# Altium integrated library Cypress USB Controllers.IntLib: 169 symbols (part 3 of 15)
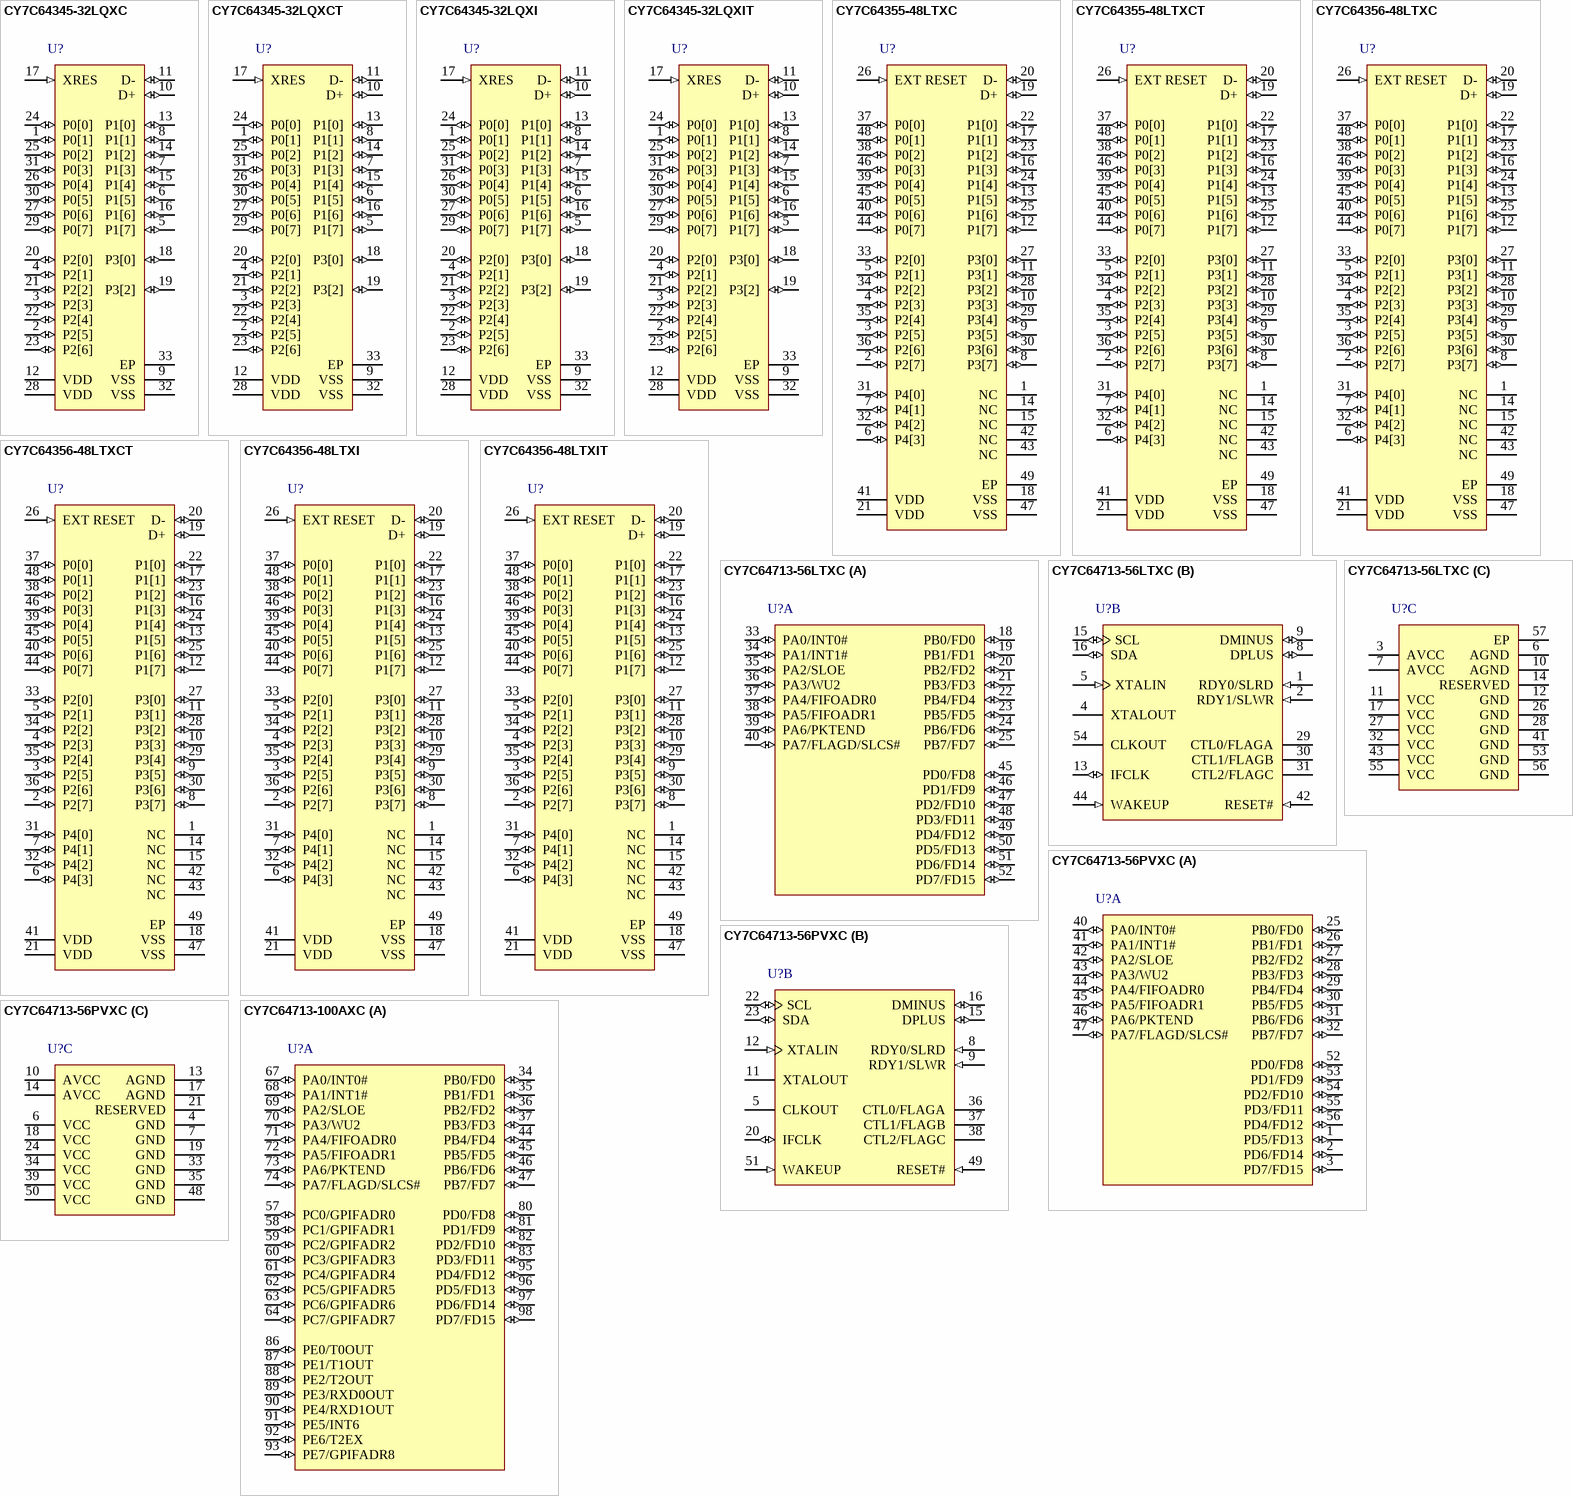
[diagram p24: symbols CY7C64345-32LQXC to CY7C64713-100AXC]

## CY7C64345-32LQXCT
designator U?
enCoRe(TM) V Full Speed USB Controller, 16 KB, 25 I/Os, 3 to 5.5 V, 0 to 70 degC, 32-Pin QFN (LQX32), Tape and Reel; Manufacturer: Cypress; PartNumber: CY7C64345-32LQXCT; CPU Core: M8C; Max. Operating Voltage (V): 5.5; Memory Architecture: Flash; Memory Size (KB): 16; Min. Operating Voltage (V): 3; No. of I/Os: 25; Populated: Yes; DatasheetVersion: Rev. *R; PackageVersion: Rev. *E; PackageReference: LQX32; PackageDescription: 32-Pin QFN (5 x 4 x 0.55 mm) LQ32 3.5 x 3.5 E-Pad (Sawn); Supplier 1: Digi-Key; Supplier Part Number 1: CY7C64345-32LQXCT-ND; Max. Operating Temp. (degreesC): 70; Min. Operating Temp. (degreesC): 0; Packing: Tape and Reel; RoHS: Pb-Free; Mounting Technology: Surface Mount; Code_JEDEC: MO-248; ComponentLink1Description: Manufacturer URL; ComponentLink1URL: http://www.cypress.com/; ComponentLink2Description: Datasheet; ComponentLink2URL: http://www.cypress.com/?docID=46968; ComponentLink3Description: Package Specification; ComponentLink3URL: http://www.cypress.com/?docID=46968
footprint CYP-LQX32_N (QFN, 32-Leads, Body 5x5mm, Pitch 0.5mm, Thermal Pad 3.5x3.5mm, IPC Medium Density)
footprint CYP-LQX32_L (QFN, 32-Leads, Body 5x5mm, Pitch 0.5mm, Thermal Pad 3.5X3.5mm, IPC High Density)
footprint CYP-LQX32_M (QFN, 32-Leads, Body 5x5mm, Pitch 0.5mm, Thermal Pad 3.5x3.5mm, IPC Low Density)
pins: 1 P0[1] (io) "Digital I/O", 2 P2[5] (io) "Digital I/O, crystal output (Xout)", 3 P2[3] (io) "Digital I/O, crystal Input (Xin)", 4 P2[1] (io) "Digital I/O", 5 P1[7] (io) "Digital I/O, I2C SCL, SPI SS", 6 P1[5] (io) "Digital I/O, I2C SDA, SPI MISO", 7 P1[3] (io) "Digital I/O, SPI CLK", 8 P1[1] (io) "Digital I/O, ISSP CLK, I2C SCL, SPI MOSI", 9 VSS (power) "Ground", 10 D+ (io) "USB PHY", 11 D- (io) "USB PHY", 12 VDD (power) "Supply voltage", 13 P1[0] (io) "Digital I/O, ISSP DATA, I2C SDA, SPI CLK", 14 P1[2] (io) "Digital I/O", 15 P1[4] (io) "Digital I/O, optional external clock input (EXTCLK)", 16 P1[6] (io) "Digital I/O", 17 XRES (in) "Active high external reset with internal pull down", 18 P3[0] (io) "Digital I/O", 19 P3[2] (io) "Digital I/O", 20 P2[0] (io) "Digital I/O", 21 P2[2] (io) "Digital I/O", 22 P2[4] (io) "Digital I/O", 23 P2[6] (io) "Digital I/O", 24 P0[0] (io) "Digital I/O", 25 P0[2] (io) "Digital I/O", 26 P0[4] (io) "Digital I/O", 27 P0[6] (io) "Digital I/O", 28 VDD (power) "Supply voltage", 29 P0[7] (io) "Digital I/O", 30 P0[5] (io) "Digital I/O", 31 P0[3] (io) "Digital I/O", 32 VSS (power) "Ground", 33 EP (power) "Ensure the center pad is connected to ground"

## CY7C64345-32LQXI
designator U?
enCoRe(TM) V Full Speed USB Controller, 16 KB, 25 I/Os, 3 to 5.5 V, -40 to 85 degC, 32-Pin QFN (LQX32); Manufacturer: Cypress; PartNumber: CY7C64345-32LQXI; CPU Core: M8C; Max. Operating Voltage (V): 5.5; Memory Architecture: Flash; Memory Size (KB): 16; Min. Operating Voltage (V): 3; No. of I/Os: 25; Populated: Yes; DatasheetVersion: Rev. *R; PackageVersion: Rev. *E; PackageReference: LQX32; PackageDescription: 32-Pin QFN (5 x 4 x 0.55 mm) LQ32 3.5 x 3.5 E-Pad (Sawn); Max. Operating Temp. (degreesC): 85; Min. Operating Temp. (degreesC): -40; RoHS: Pb-Free; Mounting Technology: Surface Mount; Code_JEDEC: MO-248; ComponentLink1Description: Manufacturer URL; ComponentLink1URL: http://www.cypress.com/; ComponentLink2Description: Datasheet; ComponentLink2URL: http://www.cypress.com/?docID=46968; ComponentLink3Description: Package Specification; ComponentLink3URL: http://www.cypress.com/?docID=46968
footprint CYP-LQX32_N (QFN, 32-Leads, Body 5x5mm, Pitch 0.5mm, Thermal Pad 3.5x3.5mm, IPC Medium Density)
footprint CYP-LQX32_L (QFN, 32-Leads, Body 5x5mm, Pitch 0.5mm, Thermal Pad 3.5X3.5mm, IPC High Density)
footprint CYP-LQX32_M (QFN, 32-Leads, Body 5x5mm, Pitch 0.5mm, Thermal Pad 3.5x3.5mm, IPC Low Density)
pins: 1 P0[1] (io) "Digital I/O", 2 P2[5] (io) "Digital I/O, crystal output (Xout)", 3 P2[3] (io) "Digital I/O, crystal Input (Xin)", 4 P2[1] (io) "Digital I/O", 5 P1[7] (io) "Digital I/O, I2C SCL, SPI SS", 6 P1[5] (io) "Digital I/O, I2C SDA, SPI MISO", 7 P1[3] (io) "Digital I/O, SPI CLK", 8 P1[1] (io) "Digital I/O, ISSP CLK, I2C SCL, SPI MOSI", 9 VSS (power) "Ground", 10 D+ (io) "USB PHY", 11 D- (io) "USB PHY", 12 VDD (power) "Supply voltage", 13 P1[0] (io) "Digital I/O, ISSP DATA, I2C SDA, SPI CLK", 14 P1[2] (io) "Digital I/O", 15 P1[4] (io) "Digital I/O, optional external clock input (EXTCLK)", 16 P1[6] (io) "Digital I/O", 17 XRES (in) "Active high external reset with internal pull down", 18 P3[0] (io) "Digital I/O", 19 P3[2] (io) "Digital I/O", 20 P2[0] (io) "Digital I/O", 21 P2[2] (io) "Digital I/O", 22 P2[4] (io) "Digital I/O", 23 P2[6] (io) "Digital I/O", 24 P0[0] (io) "Digital I/O", 25 P0[2] (io) "Digital I/O", 26 P0[4] (io) "Digital I/O", 27 P0[6] (io) "Digital I/O", 28 VDD (power) "Supply voltage", 29 P0[7] (io) "Digital I/O", 30 P0[5] (io) "Digital I/O", 31 P0[3] (io) "Digital I/O", 32 VSS (power) "Ground", 33 EP (power) "Ensure the center pad is connected to ground"

## CY7C64345-32LQXIT
designator U?
enCoRe(TM) V Full Speed USB Controller, 16 KB, 25 I/Os, 3 to 5.5 V, -40 to 85 degC, 32-Pin QFN (LQX32), Tape and Reel; Manufacturer: Cypress; PartNumber: CY7C64345-32LQXIT; CPU Core: M8C; Max. Operating Voltage (V): 5.5; Memory Architecture: Flash; Memory Size (KB): 16; Min. Operating Voltage (V): 3; No. of I/Os: 25; Populated: Yes; DatasheetVersion: Rev. *R; PackageVersion: Rev. *E; PackageReference: LQX32; PackageDescription: 32-Pin QFN (5 x 4 x 0.55 mm) LQ32 3.5 x 3.5 E-Pad (Sawn); Max. Operating Temp. (degreesC): 85; Min. Operating Temp. (degreesC): -40; Packing: Tape and Reel; RoHS: Pb-Free; Mounting Technology: Surface Mount; Code_JEDEC: MO-248; ComponentLink1Description: Manufacturer URL; ComponentLink1URL: http://www.cypress.com/; ComponentLink2Description: Datasheet; ComponentLink2URL: http://www.cypress.com/?docID=46968; ComponentLink3Description: Package Specification; ComponentLink3URL: http://www.cypress.com/?docID=46968
footprint CYP-LQX32_N (QFN, 32-Leads, Body 5x5mm, Pitch 0.5mm, Thermal Pad 3.5x3.5mm, IPC Medium Density)
footprint CYP-LQX32_L (QFN, 32-Leads, Body 5x5mm, Pitch 0.5mm, Thermal Pad 3.5X3.5mm, IPC High Density)
footprint CYP-LQX32_M (QFN, 32-Leads, Body 5x5mm, Pitch 0.5mm, Thermal Pad 3.5x3.5mm, IPC Low Density)
pins: 1 P0[1] (io) "Digital I/O", 2 P2[5] (io) "Digital I/O, crystal output (Xout)", 3 P2[3] (io) "Digital I/O, crystal Input (Xin)", 4 P2[1] (io) "Digital I/O", 5 P1[7] (io) "Digital I/O, I2C SCL, SPI SS", 6 P1[5] (io) "Digital I/O, I2C SDA, SPI MISO", 7 P1[3] (io) "Digital I/O, SPI CLK", 8 P1[1] (io) "Digital I/O, ISSP CLK, I2C SCL, SPI MOSI", 9 VSS (power) "Ground", 10 D+ (io) "USB PHY", 11 D- (io) "USB PHY", 12 VDD (power) "Supply voltage", 13 P1[0] (io) "Digital I/O, ISSP DATA, I2C SDA, SPI CLK", 14 P1[2] (io) "Digital I/O", 15 P1[4] (io) "Digital I/O, optional external clock input (EXTCLK)", 16 P1[6] (io) "Digital I/O", 17 XRES (in) "Active high external reset with internal pull down", 18 P3[0] (io) "Digital I/O", 19 P3[2] (io) "Digital I/O", 20 P2[0] (io) "Digital I/O", 21 P2[2] (io) "Digital I/O", 22 P2[4] (io) "Digital I/O", 23 P2[6] (io) "Digital I/O", 24 P0[0] (io) "Digital I/O", 25 P0[2] (io) "Digital I/O", 26 P0[4] (io) "Digital I/O", 27 P0[6] (io) "Digital I/O", 28 VDD (power) "Supply voltage", 29 P0[7] (io) "Digital I/O", 30 P0[5] (io) "Digital I/O", 31 P0[3] (io) "Digital I/O", 32 VSS (power) "Ground", 33 EP (power) "Ensure the center pad is connected to ground"

## CY7C64355-48LTXC
designator U?
enCoRe(TM) V Full Speed USB Controller, 16 KB, 36 I/Os, 3 to 5.5 V, 0 to 70 degC, 48-Pin QFN (LTX48A), Tray; Manufacturer: Cypress; PartNumber: CY7C64355-48LTXC; CPU Core: M8C; Max. Operating Voltage (V): 5.5; Memory Architecture: Flash; Memory Size (KB): 16; Min. Operating Voltage (V): 3; No. of I/Os: 36; Populated: Yes; DatasheetVersion: Rev. *R; PackageVersion: Rev. *F, 01/2012; PackageReference: LTX48A; PackageDescription: 48-Pin Quad Flat No Lead, Body 7 x 7 mm, Pitch 0.5 mm; Supplier 1: Digi-Key; Supplier Part Number 1: 428-2889-ND; Max. Operating Temp. (degreesC): 70; Min. Operating Temp. (degreesC): 0; Packing: Tray; RoHS: Pb-Free; Mounting Technology: Surface Mount; Code_JEDEC: MO-220; ComponentLink1Description: Manufacturer URL; ComponentLink1URL: http://www.cypress.com/; ComponentLink2Description: Datasheet; ComponentLink2URL: http://www.cypress.com/?docID=46968; ComponentLink3Description: Package Specification; ComponentLink3URL: http://www.cypress.com/?docID=37398
footprint CYP-LTX48A_N (QFN, 48-Leads, Body 7x7mm, Pitch 0.5mm, Thermal Pad 5.1x5.1mm, IPC Medium Density)
footprint CYP-LTX48A_L (QFN, 48-Leads, Body 7x7mm, Pitch 0.5mm, Thermal Pad 5.1x5.1mm, IPC High Density)
footprint CYP-LTX48A_M (QFN, 48-Leads, Body 7x7mm, Pitch 0.5mm, Thermal Pad 5.1x5.1mm, IPC Low Density)
pins: 1 NC "No connection", 2 P2[7] (io) "Digital I/O", 3 P2[5] (io) "Digital I/O, crystal out (Xout)", 4 P2[3] (io) "Digital I/O, crystal in (Xin)", 5 P2[1] (io) "Digital I/O", 6 P4[3] (io) "Digital I/O", 7 P4[1] (io) "Digital I/O", 8 P3[7] (io) "Digital I/O", 9 P3[5] (io) "Digital I/O", 10 P3[3] (io) "Digital I/O", 11 P3[1] (io) "Digital I/O", 12 P1[7] (io) "Digital I/O, I2C SCL, SPI SS", 13 P1[5] (io) "Digital I/O, I2C SDA, SPI MISO", 14 NC "No connection", 15 NC "No connection", 16 P1[3] (io) "Digital I/O, SPI CLK", 17 P1[1] (io) "Digital I/O, ISSP CLK, I2C SCL, SPI MOSI", 18 VSS (power) "Supply ground", 19 D+ (io) "USB", 20 D- (io) "USB", 21 VDD (power) "Supply voltage", 22 P1[0] (io) "Digital I/O, ISSP DATA, I2C SDA, SPI CLK", 23 P1[2] (io) "Digital I/O", 24 P1[4] (io) "Digital I/O, optional external clock input (EXTCLK)", 25 P1[6] (io) "Digital I/O", 26 EXT RESET (in) "Active high external reset with internal pull down", 27 P3[0] (io) "Digital I/O", 28 P3[2] (io) "Digital I/O", 29 P3[4] (io) "Digital I/O", 30 P3[6] (io) "Digital I/O", 31 P4[0] (io) "Digital I/O", 32 P4[2] (io) "Digital I/O", 33 P2[0] (io) "Digital I/O", 34 P2[2] (io) "Digital I/O", 35 P2[4] (io) "Digital I/O", 36 P2[6] (io) "Digital I/O", 37 P0[0] (io) "Digital I/O", 38 P0[2] (io) "Digital I/O", 39 P0[4] (io) "Digital I/O", 40 P0[6] (io) "Digital I/O", 41 VDD (power) "Supply voltage", 42 NC "No connection", 43 NC "No connection", 44 P0[7] (io) "Digital I/O", 45 P0[5] (io) "Digital I/O", 46 P0[3] (io) "Digital I/O", 47 VSS (power) "Supply ground", 48 P0[1] (io) "Digital I/O", 49 EP (power) "Ensure the center pad is connected to ground"

## CY7C64355-48LTXCT
designator U?
enCoRe(TM) V Full Speed USB Controller, 16 KB, 36 I/Os, 3 to 5.5 V, 0 to 70 degC, 48-Pin QFN (LTX48A), Tape and Reel; Manufacturer: Cypress; PartNumber: CY7C64355-48LTXCT; CPU Core: M8C; Max. Operating Voltage (V): 5.5; Memory Architecture: Flash; Memory Size (KB): 16; Min. Operating Voltage (V): 3; No. of I/Os: 36; Populated: Yes; DatasheetVersion: Rev. *R; PackageVersion: Rev. *F, 01/2012; PackageReference: LTX48A; PackageDescription: 48-Pin Quad Flat No Lead, Body 7 x 7 mm, Pitch 0.5 mm; Supplier 1: Digi-Key; Supplier Part Number 1: CY7C64355-48LTXCT-ND; Max. Operating Temp. (degreesC): 70; Min. Operating Temp. (degreesC): 0; Packing: Tape and Reel; RoHS: Pb-Free; Mounting Technology: Surface Mount; Code_JEDEC: MO-220; ComponentLink1Description: Manufacturer URL; ComponentLink1URL: http://www.cypress.com/; ComponentLink2Description: Datasheet; ComponentLink2URL: http://www.cypress.com/?docID=46968; ComponentLink3Description: Package Specification; ComponentLink3URL: http://www.cypress.com/?docID=37398
footprint CYP-LTX48A_N (QFN, 48-Leads, Body 7x7mm, Pitch 0.5mm, Thermal Pad 5.1x5.1mm, IPC Medium Density)
footprint CYP-LTX48A_L (QFN, 48-Leads, Body 7x7mm, Pitch 0.5mm, Thermal Pad 5.1x5.1mm, IPC High Density)
footprint CYP-LTX48A_M (QFN, 48-Leads, Body 7x7mm, Pitch 0.5mm, Thermal Pad 5.1x5.1mm, IPC Low Density)
pins: 1 NC "No connection", 2 P2[7] (io) "Digital I/O", 3 P2[5] (io) "Digital I/O, crystal out (Xout)", 4 P2[3] (io) "Digital I/O, crystal in (Xin)", 5 P2[1] (io) "Digital I/O", 6 P4[3] (io) "Digital I/O", 7 P4[1] (io) "Digital I/O", 8 P3[7] (io) "Digital I/O", 9 P3[5] (io) "Digital I/O", 10 P3[3] (io) "Digital I/O", 11 P3[1] (io) "Digital I/O", 12 P1[7] (io) "Digital I/O, I2C SCL, SPI SS", 13 P1[5] (io) "Digital I/O, I2C SDA, SPI MISO", 14 NC "No connection", 15 NC "No connection", 16 P1[3] (io) "Digital I/O, SPI CLK", 17 P1[1] (io) "Digital I/O, ISSP CLK, I2C SCL, SPI MOSI", 18 VSS (power) "Supply ground", 19 D+ (io) "USB", 20 D- (io) "USB", 21 VDD (power) "Supply voltage", 22 P1[0] (io) "Digital I/O, ISSP DATA, I2C SDA, SPI CLK", 23 P1[2] (io) "Digital I/O", 24 P1[4] (io) "Digital I/O, optional external clock input (EXTCLK)", 25 P1[6] (io) "Digital I/O", 26 EXT RESET (in) "Active high external reset with internal pull down", 27 P3[0] (io) "Digital I/O", 28 P3[2] (io) "Digital I/O", 29 P3[4] (io) "Digital I/O", 30 P3[6] (io) "Digital I/O", 31 P4[0] (io) "Digital I/O", 32 P4[2] (io) "Digital I/O", 33 P2[0] (io) "Digital I/O", 34 P2[2] (io) "Digital I/O", 35 P2[4] (io) "Digital I/O", 36 P2[6] (io) "Digital I/O", 37 P0[0] (io) "Digital I/O", 38 P0[2] (io) "Digital I/O", 39 P0[4] (io) "Digital I/O", 40 P0[6] (io) "Digital I/O", 41 VDD (power) "Supply voltage", 42 NC "No connection", 43 NC "No connection", 44 P0[7] (io) "Digital I/O", 45 P0[5] (io) "Digital I/O", 46 P0[3] (io) "Digital I/O", 47 VSS (power) "Supply ground", 48 P0[1] (io) "Digital I/O", 49 EP (power) "Ensure the center pad is connected to ground"

## CY7C64356-48LTXC
designator U?
enCoRe(TM) V Full Speed USB Controller, 32 KB, 36 I/Os, 3 to 5.5 V, 0 to 70 degC, 48-Pin QFN (LTX48A), Tray; Manufacturer: Cypress; PartNumber: CY7C64356-48LTXC; CPU Core: M8C; Max. Operating Voltage (V): 5.5; Memory Architecture: Flash; Memory Size (KB): 32; Min. Operating Voltage (V): 3; No. of I/Os: 36; Populated: Yes; DatasheetVersion: Rev. *R; PackageVersion: Rev. *F, 01/2012; PackageReference: LTX48A; PackageDescription: 48-Pin Quad Flat No Lead, Body 7 x 7 mm, Pitch 0.5 mm; Supplier 1: Digi-Key; Supplier Part Number 1: 428-2890-ND; Max. Operating Temp. (degreesC): 70; Min. Operating Temp. (degreesC): 0; Packing: Tray; RoHS: Pb-Free; Mounting Technology: Surface Mount; Code_JEDEC: MO-220; ComponentLink1Description: Manufacturer URL; ComponentLink1URL: http://www.cypress.com/; ComponentLink2Description: Datasheet; ComponentLink2URL: http://www.cypress.com/?docID=46968; ComponentLink3Description: Package Specification; ComponentLink3URL: http://www.cypress.com/?docID=37398
footprint CYP-LTX48A_N (QFN, 48-Leads, Body 7x7mm, Pitch 0.5mm, Thermal Pad 5.1x5.1mm, IPC Medium Density)
footprint CYP-LTX48A_L (QFN, 48-Leads, Body 7x7mm, Pitch 0.5mm, Thermal Pad 5.1x5.1mm, IPC High Density)
footprint CYP-LTX48A_M (QFN, 48-Leads, Body 7x7mm, Pitch 0.5mm, Thermal Pad 5.1x5.1mm, IPC Low Density)
pins: 1 NC "No connection", 2 P2[7] (io) "Digital I/O", 3 P2[5] (io) "Digital I/O, crystal out (Xout)", 4 P2[3] (io) "Digital I/O, crystal in (Xin)", 5 P2[1] (io) "Digital I/O", 6 P4[3] (io) "Digital I/O", 7 P4[1] (io) "Digital I/O", 8 P3[7] (io) "Digital I/O", 9 P3[5] (io) "Digital I/O", 10 P3[3] (io) "Digital I/O", 11 P3[1] (io) "Digital I/O", 12 P1[7] (io) "Digital I/O, I2C SCL, SPI SS", 13 P1[5] (io) "Digital I/O, I2C SDA, SPI MISO", 14 NC "No connection", 15 NC "No connection", 16 P1[3] (io) "Digital I/O, SPI CLK", 17 P1[1] (io) "Digital I/O, ISSP CLK, I2C SCL, SPI MOSI", 18 VSS (power) "Supply ground", 19 D+ (io) "USB", 20 D- (io) "USB", 21 VDD (power) "Supply voltage", 22 P1[0] (io) "Digital I/O, ISSP DATA, I2C SDA, SPI CLK", 23 P1[2] (io) "Digital I/O", 24 P1[4] (io) "Digital I/O, optional external clock input (EXTCLK)", 25 P1[6] (io) "Digital I/O", 26 EXT RESET (in) "Active high external reset with internal pull down", 27 P3[0] (io) "Digital I/O", 28 P3[2] (io) "Digital I/O", 29 P3[4] (io) "Digital I/O", 30 P3[6] (io) "Digital I/O", 31 P4[0] (io) "Digital I/O", 32 P4[2] (io) "Digital I/O", 33 P2[0] (io) "Digital I/O", 34 P2[2] (io) "Digital I/O", 35 P2[4] (io) "Digital I/O", 36 P2[6] (io) "Digital I/O", 37 P0[0] (io) "Digital I/O", 38 P0[2] (io) "Digital I/O", 39 P0[4] (io) "Digital I/O", 40 P0[6] (io) "Digital I/O", 41 VDD (power) "Supply voltage", 42 NC "No connection", 43 NC "No connection", 44 P0[7] (io) "Digital I/O", 45 P0[5] (io) "Digital I/O", 46 P0[3] (io) "Digital I/O", 47 VSS (power) "Supply ground", 48 P0[1] (io) "Digital I/O", 49 EP (power) "Ensure the center pad is connected to ground"

## CY7C64356-48LTXCT
designator U?
enCoRe(TM) V Full Speed USB Controller, 32 KB, 36 I/Os, 3 to 5.5 V, 0 to 70 degC, 48-Pin QFN (LTX48A), Tape and Reel; Manufacturer: Cypress; PartNumber: CY7C64356-48LTXCT; CPU Core: M8C; Max. Operating Voltage (V): 5.5; Memory Architecture: Flash; Memory Size (KB): 32; Min. Operating Voltage (V): 3; No. of I/Os: 36; Populated: Yes; DatasheetVersion: Rev. *R; PackageVersion: Rev. *F, 01/2012; PackageReference: LTX48A; PackageDescription: 48-Pin Quad Flat No Lead, Body 7 x 7 mm, Pitch 0.5 mm; Supplier 1: Digi-Key; Supplier Part Number 1: CY7C64356-48LTXCT-ND; Max. Operating Temp. (degreesC): 70; Min. Operating Temp. (degreesC): 0; Packing: Tape and Reel; RoHS: Pb-Free; Mounting Technology: Surface Mount; Code_JEDEC: MO-220; ComponentLink1Description: Manufacturer URL; ComponentLink1URL: http://www.cypress.com/; ComponentLink2Description: Datasheet; ComponentLink2URL: http://www.cypress.com/?docID=46968; ComponentLink3Description: Package Specification; ComponentLink3URL: http://www.cypress.com/?docID=37398
footprint CYP-LTX48A_N (QFN, 48-Leads, Body 7x7mm, Pitch 0.5mm, Thermal Pad 5.1x5.1mm, IPC Medium Density)
footprint CYP-LTX48A_L (QFN, 48-Leads, Body 7x7mm, Pitch 0.5mm, Thermal Pad 5.1x5.1mm, IPC High Density)
footprint CYP-LTX48A_M (QFN, 48-Leads, Body 7x7mm, Pitch 0.5mm, Thermal Pad 5.1x5.1mm, IPC Low Density)
pins: 1 NC "No connection", 2 P2[7] (io) "Digital I/O", 3 P2[5] (io) "Digital I/O, crystal out (Xout)", 4 P2[3] (io) "Digital I/O, crystal in (Xin)", 5 P2[1] (io) "Digital I/O", 6 P4[3] (io) "Digital I/O", 7 P4[1] (io) "Digital I/O", 8 P3[7] (io) "Digital I/O", 9 P3[5] (io) "Digital I/O", 10 P3[3] (io) "Digital I/O", 11 P3[1] (io) "Digital I/O", 12 P1[7] (io) "Digital I/O, I2C SCL, SPI SS", 13 P1[5] (io) "Digital I/O, I2C SDA, SPI MISO", 14 NC "No connection", 15 NC "No connection", 16 P1[3] (io) "Digital I/O, SPI CLK", 17 P1[1] (io) "Digital I/O, ISSP CLK, I2C SCL, SPI MOSI", 18 VSS (power) "Supply ground", 19 D+ (io) "USB", 20 D- (io) "USB", 21 VDD (power) "Supply voltage", 22 P1[0] (io) "Digital I/O, ISSP DATA, I2C SDA, SPI CLK", 23 P1[2] (io) "Digital I/O", 24 P1[4] (io) "Digital I/O, optional external clock input (EXTCLK)", 25 P1[6] (io) "Digital I/O", 26 EXT RESET (in) "Active high external reset with internal pull down", 27 P3[0] (io) "Digital I/O", 28 P3[2] (io) "Digital I/O", 29 P3[4] (io) "Digital I/O", 30 P3[6] (io) "Digital I/O", 31 P4[0] (io) "Digital I/O", 32 P4[2] (io) "Digital I/O", 33 P2[0] (io) "Digital I/O", 34 P2[2] (io) "Digital I/O", 35 P2[4] (io) "Digital I/O", 36 P2[6] (io) "Digital I/O", 37 P0[0] (io) "Digital I/O", 38 P0[2] (io) "Digital I/O", 39 P0[4] (io) "Digital I/O", 40 P0[6] (io) "Digital I/O", 41 VDD (power) "Supply voltage", 42 NC "No connection", 43 NC "No connection", 44 P0[7] (io) "Digital I/O", 45 P0[5] (io) "Digital I/O", 46 P0[3] (io) "Digital I/O", 47 VSS (power) "Supply ground", 48 P0[1] (io) "Digital I/O", 49 EP (power) "Ensure the center pad is connected to ground"

## CY7C64356-48LTXI
designator U?
enCoRe(TM) V Full Speed USB Controller, 32 KB, 36 I/Os, 3 to 5.5 V, -40 to 85 degC, 48-Pin QFN (LTX48A); Manufacturer: Cypress; PartNumber: CY7C64356-48LTXI; CPU Core: M8C; Max. Operating Voltage (V): 5.5; Memory Architecture: Flash; Memory Size (KB): 32; Min. Operating Voltage (V): 3; No. of I/Os: 36; Populated: Yes; DatasheetVersion: Rev. *R; PackageVersion: Rev. *F, 01/2012; PackageReference: LTX48A; PackageDescription: 48-Pin Quad Flat No Lead, Body 7 x 7 mm, Pitch 0.5 mm; Max. Operating Temp. (degreesC): 85; Min. Operating Temp. (degreesC): -40; RoHS: Pb-Free; Mounting Technology: Surface Mount; Code_JEDEC: MO-220; ComponentLink1Description: Manufacturer URL; ComponentLink1URL: http://www.cypress.com/; ComponentLink2Description: Datasheet; ComponentLink2URL: http://www.cypress.com/?docID=46968; ComponentLink3Description: Package Specification; ComponentLink3URL: http://www.cypress.com/?docID=37398
footprint CYP-LTX48A_N (QFN, 48-Leads, Body 7x7mm, Pitch 0.5mm, Thermal Pad 5.1x5.1mm, IPC Medium Density)
footprint CYP-LTX48A_L (QFN, 48-Leads, Body 7x7mm, Pitch 0.5mm, Thermal Pad 5.1x5.1mm, IPC High Density)
footprint CYP-LTX48A_M (QFN, 48-Leads, Body 7x7mm, Pitch 0.5mm, Thermal Pad 5.1x5.1mm, IPC Low Density)
pins: 1 NC "No connection", 2 P2[7] (io) "Digital I/O", 3 P2[5] (io) "Digital I/O, crystal out (Xout)", 4 P2[3] (io) "Digital I/O, crystal in (Xin)", 5 P2[1] (io) "Digital I/O", 6 P4[3] (io) "Digital I/O", 7 P4[1] (io) "Digital I/O", 8 P3[7] (io) "Digital I/O", 9 P3[5] (io) "Digital I/O", 10 P3[3] (io) "Digital I/O", 11 P3[1] (io) "Digital I/O", 12 P1[7] (io) "Digital I/O, I2C SCL, SPI SS", 13 P1[5] (io) "Digital I/O, I2C SDA, SPI MISO", 14 NC "No connection", 15 NC "No connection", 16 P1[3] (io) "Digital I/O, SPI CLK", 17 P1[1] (io) "Digital I/O, ISSP CLK, I2C SCL, SPI MOSI", 18 VSS (power) "Supply ground", 19 D+ (io) "USB", 20 D- (io) "USB", 21 VDD (power) "Supply voltage", 22 P1[0] (io) "Digital I/O, ISSP DATA, I2C SDA, SPI CLK", 23 P1[2] (io) "Digital I/O", 24 P1[4] (io) "Digital I/O, optional external clock input (EXTCLK)", 25 P1[6] (io) "Digital I/O", 26 EXT RESET (in) "Active high external reset with internal pull down", 27 P3[0] (io) "Digital I/O", 28 P3[2] (io) "Digital I/O", 29 P3[4] (io) "Digital I/O", 30 P3[6] (io) "Digital I/O", 31 P4[0] (io) "Digital I/O", 32 P4[2] (io) "Digital I/O", 33 P2[0] (io) "Digital I/O", 34 P2[2] (io) "Digital I/O", 35 P2[4] (io) "Digital I/O", 36 P2[6] (io) "Digital I/O", 37 P0[0] (io) "Digital I/O", 38 P0[2] (io) "Digital I/O", 39 P0[4] (io) "Digital I/O", 40 P0[6] (io) "Digital I/O", 41 VDD (power) "Supply voltage", 42 NC "No connection", 43 NC "No connection", 44 P0[7] (io) "Digital I/O", 45 P0[5] (io) "Digital I/O", 46 P0[3] (io) "Digital I/O", 47 VSS (power) "Supply ground", 48 P0[1] (io) "Digital I/O", 49 EP (power) "Ensure the center pad is connected to ground"

## CY7C64356-48LTXIT
designator U?
enCoRe(TM) V Full Speed USB Controller, 32 KB, 36 I/Os, 3 to 5.5 V, -40 to 85 degC, 48-Pin QFN (LTX48A), Tape and Reel; Manufacturer: Cypress; PartNumber: CY7C64356-48LTXIT; CPU Core: M8C; Max. Operating Voltage (V): 5.5; Memory Architecture: Flash; Memory Size (KB): 32; Min. Operating Voltage (V): 3; No. of I/Os: 36; Populated: Yes; DatasheetVersion: Rev. *R; PackageVersion: Rev. *F, 01/2012; PackageReference: LTX48A; PackageDescription: 48-Pin Quad Flat No Lead, Body 7 x 7 mm, Pitch 0.5 mm; Max. Operating Temp. (degreesC): 85; Min. Operating Temp. (degreesC): -40; Packing: Tape and Reel; RoHS: Pb-Free; Mounting Technology: Surface Mount; Code_JEDEC: MO-220; ComponentLink1Description: Manufacturer URL; ComponentLink1URL: http://www.cypress.com/; ComponentLink2Description: Datasheet; ComponentLink2URL: http://www.cypress.com/?docID=46968; ComponentLink3Description: Package Specification; ComponentLink3URL: http://www.cypress.com/?docID=37398
footprint CYP-LTX48A_N (QFN, 48-Leads, Body 7x7mm, Pitch 0.5mm, Thermal Pad 5.1x5.1mm, IPC Medium Density)
footprint CYP-LTX48A_L (QFN, 48-Leads, Body 7x7mm, Pitch 0.5mm, Thermal Pad 5.1x5.1mm, IPC High Density)
footprint CYP-LTX48A_M (QFN, 48-Leads, Body 7x7mm, Pitch 0.5mm, Thermal Pad 5.1x5.1mm, IPC Low Density)
pins: 1 NC "No connection", 2 P2[7] (io) "Digital I/O", 3 P2[5] (io) "Digital I/O, crystal out (Xout)", 4 P2[3] (io) "Digital I/O, crystal in (Xin)", 5 P2[1] (io) "Digital I/O", 6 P4[3] (io) "Digital I/O", 7 P4[1] (io) "Digital I/O", 8 P3[7] (io) "Digital I/O", 9 P3[5] (io) "Digital I/O", 10 P3[3] (io) "Digital I/O", 11 P3[1] (io) "Digital I/O", 12 P1[7] (io) "Digital I/O, I2C SCL, SPI SS", 13 P1[5] (io) "Digital I/O, I2C SDA, SPI MISO", 14 NC "No connection", 15 NC "No connection", 16 P1[3] (io) "Digital I/O, SPI CLK", 17 P1[1] (io) "Digital I/O, ISSP CLK, I2C SCL, SPI MOSI", 18 VSS (power) "Supply ground", 19 D+ (io) "USB", 20 D- (io) "USB", 21 VDD (power) "Supply voltage", 22 P1[0] (io) "Digital I/O, ISSP DATA, I2C SDA, SPI CLK", 23 P1[2] (io) "Digital I/O", 24 P1[4] (io) "Digital I/O, optional external clock input (EXTCLK)", 25 P1[6] (io) "Digital I/O", 26 EXT RESET (in) "Active high external reset with internal pull down", 27 P3[0] (io) "Digital I/O", 28 P3[2] (io) "Digital I/O", 29 P3[4] (io) "Digital I/O", 30 P3[6] (io) "Digital I/O", 31 P4[0] (io) "Digital I/O", 32 P4[2] (io) "Digital I/O", 33 P2[0] (io) "Digital I/O", 34 P2[2] (io) "Digital I/O", 35 P2[4] (io) "Digital I/O", 36 P2[6] (io) "Digital I/O", 37 P0[0] (io) "Digital I/O", 38 P0[2] (io) "Digital I/O", 39 P0[4] (io) "Digital I/O", 40 P0[6] (io) "Digital I/O", 41 VDD (power) "Supply voltage", 42 NC "No connection", 43 NC "No connection", 44 P0[7] (io) "Digital I/O", 45 P0[5] (io) "Digital I/O", 46 P0[3] (io) "Digital I/O", 47 VSS (power) "Supply ground", 48 P0[1] (io) "Digital I/O", 49 EP (power) "Ensure the center pad is connected to ground"

## CY7C64713-56LTXC
designator U?
EZ-USB FX1(TM) USB Microcontroller Full Speed USB Peripheral Controller, 16 KB, 24 I/Os, 3.15 to 3.45 V, 0 to 70 degC, 56-Pin QFN (LTX56), Tray; Manufacturer: Cypress; PartNumber: CY7C64713-56LTXC; Max. Operating Voltage (V): 3.45; Memory Architecture: RAM; Memory Size (KB): 16; Min. Operating Voltage (V): 3.15; No. of I/Os: 24; Populated: Yes; DatasheetVersion: Rev. *L; PackageVersion: Rev. *D; PackageReference: LTX56; PackageDescription: 56-Pin Sawn QFN, Body 8 x 8 mm, Pitch 0.5 mm; Supplier 1: Digi-Key; Supplier Part Number 1: 428-2929-ND; CPU Core: Enhanced 8051; Max. Operating Temp. (degreesC): 70; Min. Operating Temp. (degreesC): 0; Packing: Tray; RoHS: Pb-Free; Mounting Technology: Surface Mount; Code_JEDEC: MO-220; ComponentLink1Description: Manufacturer URL; ComponentLink1URL: http://www.cypress.com/; ComponentLink2Description: Datasheet; ComponentLink2URL: http://www.cypress.com/?docID=48215; ComponentLink3Description: Package Specification; ComponentLink3URL: http://www.cypress.com/?docID=47572
footprint CYP-LTX56-5200X4500TP_N (QFN, 56-Leads, Body 8.1x8.1mm, Pitch 0.5mm, Thermal Pad 5.2x4.5mm, IPC Medium Density)
footprint CYP-LTX56-5200X4500TP_L (QFN, 56-Leads, Body 8.1x8.1mm, Pitch 0.5mm, Thermal Pad 5.2x4.5mm, IPC High Density)
footprint CYP-LTX56-5200X4500TP_M (QFN, 56-Leads, Body 8.1x8.1mm, Pitch 0.5mm, Thermal Pad 5.2x4.5mm, IPC Low Density)
part A pins: 18 PB0/FD0 (io), 19 PB1/FD1 (io), 20 PB2/FD2 (io), 21 PB3/FD3 (io), 22 PB4/FD4 (io), 23 PB5/FD5 (io), 24 PB6/FD6 (io), 25 PB7/FD7 (io), 33 PA0/INT0# (io), 34 PA1/INT1# (io), 35 PA2/SLOE (io), 36 PA3/WU2 (io), 37 PA4/FIFOADR0 (io), 38 PA5/FIFOADR1 (io), 39 PA6/PKTEND (io), 40 PA7/FLAGD/SLCS# (io), 45 PD0/FD8 (io), 46 PD1/FD9 (io), 47 PD2/FD10 (io), 48 PD3/FD11 (io), 49 PD4/FD12 (io), 50 PD5/FD13 (io), 51 PD6/FD14 (io), 52 PD7/FD15 (io)
part B pins: 1 RDY0/SLRD (in), 2 RDY1/SLWR (in), 4 XTALOUT "Crystal Output. Connect this signal to a 24 MHz parallel-resonant, fundamental mode crystal and load capacitor to GND. If an external clock is used to drive XTALIN, leave this pin open.", 5 XTALIN (in) "Crystal Input. Connect this signal to a 24 MHz parallel-resonant, fundamental mode crystal and load capacitor to GND. It is also correct to drive the XTALIN with an external 24 MHz square wave derived from another clock (See Datasheet)", 8 DPLUS (io) "USB D+ Signal. Connect to the USB D+ signal.", 9 DMINUS (io) "USB D- Signal. Connect to the USB D- signal.", 13 IFCLK (io) "Interface Clock, used for synchronously clocking data into/out of the slave FIFOs. IFCLK also serves as a timing reference for all slave FIFO control signals and GPIF. When internal clocking is used (IFCONFIG.7 = 1) the (See Datasheet)", 15 SCL (io) "Clock for the I2C interface. Connect to VCC with a 2.2K resistor, even if no I2C peripheral is attached.", 16 SDA (io) "Data for I2C interface. Connect to VCC with a 2.2K resistor, even if no I2C peripheral is attached.", 29 CTL0/FLAGA (hiz), 30 CTL1/FLAGB (hiz), 31 CTL2/FLAGC (hiz), 42 RESET# (in) "Active LOW Reset. Resets the entire chip. See the section Reset and Wakeup on page 8 for more details.", 44 WAKEUP (in) "USB Wakeup. If the 8051 is in suspend, asserting this pin starts up the oscillator and interrupts the 8051 to allow it to exit the suspend mode. Holding WAKEUP asserted inhibits the EZ-USB FX1 chip from suspending. This pin (See Datasheet)", 54 CLKOUT (hiz) "CLKOUT. 12, 24/48 MHz clock, phase locked to the 24 MHz input clock. The 8051 defaults to 12 MHz operation. The 8051 may three-state this output by setting CPUCS.1 = 1."
part C pins: 3 AVCC (power) "Analog VCC. Connect this pin to 3.3 V power source. This signal provides power to the analog section of the chip.", 6 AGND (power) "Analog Ground. Connect to ground with as short a path as possible.", 7 AVCC (power) "Analog VCC. Connect this pin to 3.3 V power source. This signal provides power to the analog section of the chip.", 10 AGND (power) "Analog Ground. Connect to ground with as short a path as possible.", 11 VCC (power) "VCC. Connect to 3.3 V power source.", 12 GND (power) "Ground.", 14 RESERVED (power) "Reserved. Connect to ground.", 17 VCC (power) "VCC. Connect to 3.3 V power source.", 26 GND (power) "Ground.", 27 VCC (power) "VCC. Connect to 3.3 V power source.", 28 GND (power) "Ground.", 32 VCC (power) "VCC. Connect to 3.3 V power source.", 41 GND (power) "Ground.", 43 VCC (power) "VCC. Connect to 3.3 V power source.", 53 GND (power) "Ground.", 55 VCC (power) "VCC. Connect to 3.3 V power source.", 56 GND (power) "Ground.", 57 EP

## CY7C64713-56PVXC
designator U?
EZ-USB FX1(TM) USB Microcontroller Full Speed USB Peripheral Controller, 16 KB, 24 I/Os, 3.15 to 3.45 V, 0 to 70 degC, 56-Pin SSOP (PVX56); Manufacturer: Cypress; PartNumber: CY7C64713-56PVXC; Max. Operating Voltage (V): 3.45; Memory Architecture: RAM; Memory Size (KB): 16; Min. Operating Voltage (V): 3.15; No. of I/Os: 24; Populated: Yes; DatasheetVersion: Rev. *L; PackageVersion: Rev. *F, 08/2012; PackageReference: PVX56; PackageDescription: 56-Pin Shrunk Small Outline Package, Body 7.506 x 18.415 mm, Pitch 0.635 mm; CPU Core: Enhanced 8051; Max. Operating Temp. (degreesC): 70; Min. Operating Temp. (degreesC): 0; RoHS: Pb-Free; Mounting Technology: Surface Mount; ComponentLink1Description: Manufacturer URL; ComponentLink1URL: http://www.cypress.com/; ComponentLink2Description: Datasheet; ComponentLink2URL: http://www.cypress.com/?docID=48215; ComponentLink3Description: Package Specification; ComponentLink3URL: http://www.cypress.com/?docID=39259
footprint CYP-PVX56_N (SOP, 56-Leads, Body 18.415x7.506mm, Pitch 0.635mm , IPC Medium Density)
footprint CYP-PVX56_L (SOP, 56-Leads, Body 18.415x7.506mm, Pitch 0.635mm, IPC High Density)
footprint CYP-PVX56_M (SOP, 56-Leads, Body 18.415x7.506mm, Pitch 0.635mm, IPC Low Density)
part A pins: 1 PD5/FD13 (io), 2 PD6/FD14 (io), 3 PD7/FD15 (io), 25 PB0/FD0 (io), 26 PB1/FD1 (io), 27 PB2/FD2 (io), 28 PB3/FD3 (io), 29 PB4/FD4 (io), 30 PB5/FD5 (io), 31 PB6/FD6 (io), 32 PB7/FD7 (io), 40 PA0/INT0# (io), 41 PA1/INT1# (io), 42 PA2/SLOE (io), 43 PA3/WU2 (io), 44 PA4/FIFOADR0 (io), 45 PA5/FIFOADR1 (io), 46 PA6/PKTEND (io), 47 PA7/FLAGD/SLCS# (io), 52 PD0/FD8 (io), 53 PD1/FD9 (io), 54 PD2/FD10 (io), 55 PD3/FD11 (io), 56 PD4/FD12 (io)
part B pins: 5 CLKOUT (hiz) "CLKOUT. 12, 24/48 MHz clock, phase locked to the 24 MHz input clock. The 8051 defaults to 12 MHz operation. The 8051 may three-state this output by setting CPUCS.1 = 1.", 8 RDY0/SLRD (in), 9 RDY1/SLWR (in), 11 XTALOUT "Crystal Output. Connect this signal to a 24 MHz parallel-resonant, fundamental mode crystal and load capacitor to GND. If an external clock is used to drive XTALIN, leave this pin open.", 12 XTALIN (in) "Crystal Input. Connect this signal to a 24 MHz parallel-resonant, fundamental mode crystal and load capacitor to GND. It is also correct to drive the XTALIN with an external 24 MHz square wave derived from another clock (See Datasheet)", 15 DPLUS (io) "USB D+ Signal. Connect to the USB D+ signal.", 16 DMINUS (io) "USB D- Signal. Connect to the USB D- signal.", 20 IFCLK (io) "Interface Clock, used for synchronously clocking data into/out of the slave FIFOs. IFCLK also serves as a timing reference for all slave FIFO control signals and GPIF. When internal clocking is used (IFCONFIG.7 = 1) the (See Datasheet)", 22 SCL (io) "Clock for the I2C interface. Connect to VCC with a 2.2K resistor, even if no I2C peripheral is attached.", 23 SDA (io) "Data for I2C interface. Connect to VCC with a 2.2K resistor, even if no I2C peripheral is attached.", 36 CTL0/FLAGA (hiz), 37 CTL1/FLAGB (hiz), 38 CTL2/FLAGC (hiz), 49 RESET# (in) "Active LOW Reset. Resets the entire chip. See the section Reset and Wakeup on page 8 for more details.", 51 WAKEUP (in) "USB Wakeup. If the 8051 is in suspend, asserting this pin starts up the oscillator and interrupts the 8051 to allow it to exit the suspend mode. Holding WAKEUP asserted inhibits the EZ-USB FX1 chip from suspending. This pin (See Datasheet)"
part C pins: 4 GND (power) "Ground.", 6 VCC (power) "VCC. Connect to 3.3 V power source.", 7 GND (power) "Ground.", 10 AVCC (power) "Analog VCC. Connect this pin to 3.3 V power source. This signal provides power to the analog section of the chip.", 13 AGND (power) "Analog Ground. Connect to ground with as short a path as possible.", 14 AVCC (power) "Analog VCC. Connect this pin to 3.3 V power source. This signal provides power to the analog section of the chip.", 17 AGND (power) "Analog Ground. Connect to ground with as short a path as possible.", 18 VCC (power) "VCC. Connect to 3.3 V power source.", 19 GND (power) "Ground.", 21 RESERVED (power) "Reserved. Connect to ground.", 24 VCC (power) "VCC. Connect to 3.3 V power source.", 33 GND (power) "Ground.", 34 VCC (power) "VCC. Connect to 3.3 V power source.", 35 GND (power) "Ground.", 39 VCC (power) "VCC. Connect to 3.3 V power source.", 48 GND (power) "Ground.", 50 VCC (power) "VCC. Connect to 3.3 V power source."

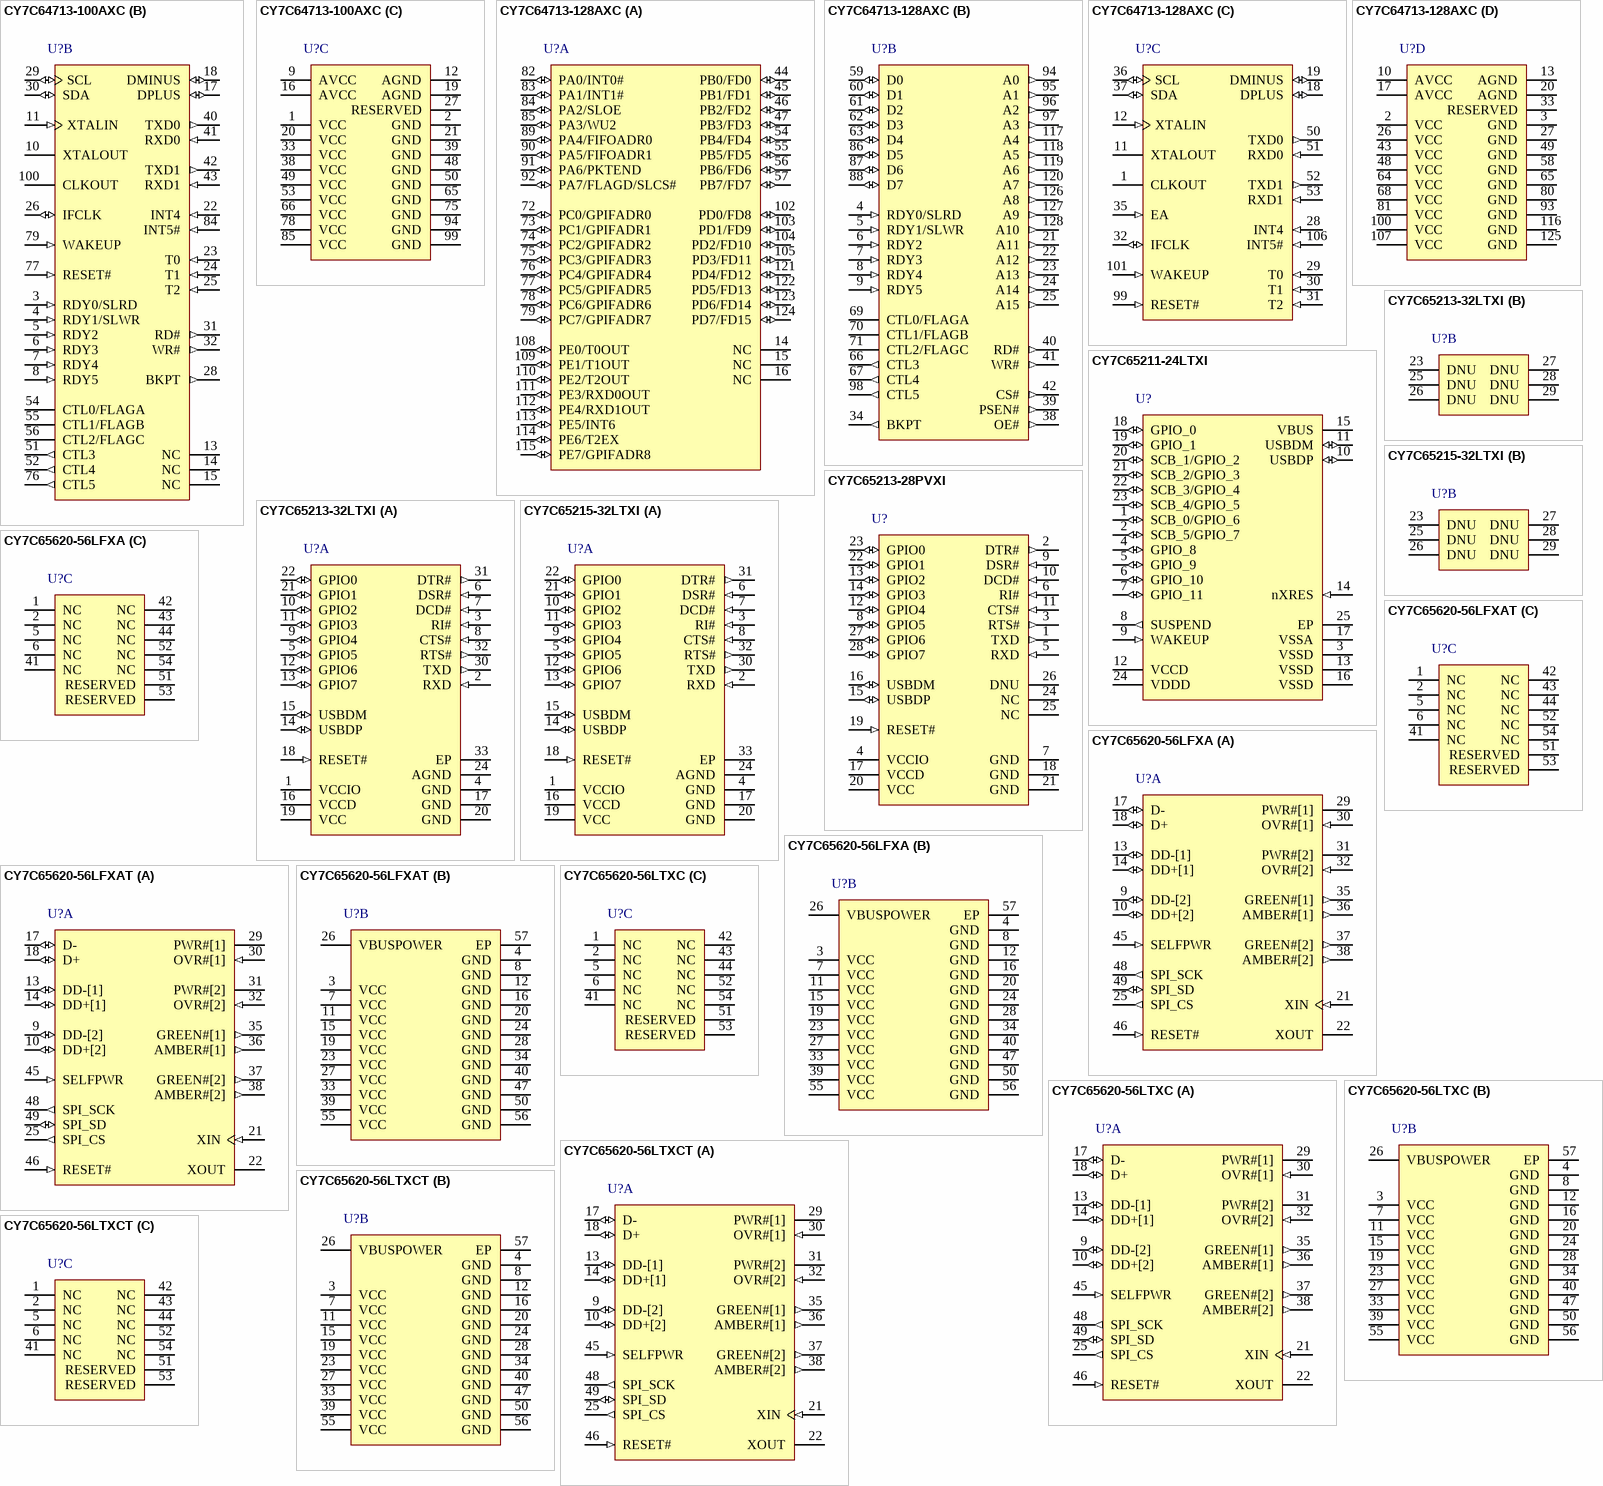
[diagram p3: symbols CY7C64713-100AXC to CY7C65620-56LTXCT]

## CY7C64713-100AXC
designator U?
EZ-USB FX1(TM) USB Microcontroller Full Speed USB Peripheral Controller, 16 KB, 40 I/Os, 3.15 to 3.45 V, 0 to 70 degC, 100-Pin TQFP (AX100RA), Tray; Manufacturer: Cypress; PartNumber: CY7C64713-100AXC; Max. Operating Voltage (V): 3.45; Memory Architecture: RAM; Memory Size (KB): 16; Min. Operating Voltage (V): 3.15; No. of I/Os: 40; Populated: Yes; DatasheetVersion: Rev. *L; PackageVersion: Rev. *E; PackageReference: AX100RA; PackageDescription: 100-Pin Thin Quad Flat Pack, Body 14 x 20 mm, Pitch 0.65 mm; Supplier 1: Digi-Key; Supplier Part Number 1: 428-1679-ND; CPU Core: Enhanced 8051; Max. Operating Temp. (degreesC): 70; Min. Operating Temp. (degreesC): 0; Packing: Tray; RoHS: Pb-Free; Mounting Technology: Surface Mount; Code_JEDEC: MS-026; ComponentLink1Description: Manufacturer URL; ComponentLink1URL: http://www.cypress.com/; ComponentLink2Description: Datasheet; ComponentLink2URL: http://www.cypress.com/?docID=48215; ComponentLink3Description: Package Specification; ComponentLink3URL: http://www.cypress.com/?docID=48215
footprint CYP-AX100RA_N (QFP, 100-Leads, Body 20x14mm, Pitch 0.65mm, IPC Medium Density)
footprint CYP-AX100RA_L (QFP, 100-Leads, Body 20x14mm, Pitch 0.65mm, IPC High Density)
footprint CYP-AX100RA_M (QFP, 100-Leads, Body 20x14mm, Pitch 0.65mm, IPC Low Density)
part A pins: 34 PB0/FD0 (io) "Multiplexed pin whose function is selected by the following bits: IFCONFIG[1..0]. PB0 is a bidirectional I/O port pin. FD[0] is the bidirectional FIFO/GPIF data bus.", 35 PB1/FD1 (io) "Multiplexed pin whose function is selected by the following bits: IFCONFIG[1..0]. PB1 is a bidirectional I/O port pin. FD[1] is the bidirectional FIFO/GPIF data bus.", 36 PB2/FD2 (io) "Multiplexed pin whose function is selected by the following bits: IFCONFIG[1..0]. PB2 is a bidirectional I/O port pin. FD[2] is the bidirectional FIFO/GPIF data bus.", 37 PB3/FD3 (io) "Multiplexed pin whose function is selected by the following bits: IFCONFIG[1..0]. PB3 is a bidirectional I/O port pin. FD[3] is the bidirectional FIFO/GPIF data bus.", 44 PB4/FD4 (io) "Multiplexed pin whose function is selected by the following bits: IFCONFIG[1..0]. PB4 is a bidirectional I/O port pin. FD[4] is the bidirectional FIFO/GPIF data bus.", 45 PB5/FD5 (io) "Multiplexed pin whose function is selected by the following bits: IFCONFIG[1..0]. PB5 is a bidirectional I/O port pin. FD[5] is the bidirectional FIFO/GPIF data bus.", 46 PB6/FD6 (io) "Multiplexed pin whose function is selected by the following bits: IFCONFIG[1..0]. PB6 is a bidirectional I/O port pin. FD[6] is the bidirectional FIFO/GPIF data bus.", 47 PB7/FD7 (io) "Multiplexed pin whose function is selected by the following bits: IFCONFIG[1..0]. PB7 is a bidirectional I/O port pin. FD[7] is the bidirectional FIFO/GPIF data bus.", 57 PC0/GPIFADR0 (io) "Multiplexed pin whose function is selected by PORTCCFG.0 PC0 is a bidirectional I/O port pin. GPIFADR0 is a GPIF address output pin.", 58 PC1/GPIFADR1 (io) "Multiplexed pin whose function is selected by PORTCCFG.1 PC1 is a bidirectional I/O port pin. GPIFADR1 is a GPIF address output pin.", 59 PC2/GPIFADR2 (io) "Multiplexed pin whose function is selected by PORTCCFG.2 PC2 is a bidirectional I/O port pin. GPIFADR2 is a GPIF address output pin.", 60 PC3/GPIFADR3 (io) "Multiplexed pin whose function is selected by PORTCCFG.3 PC3 is a bidirectional I/O port pin. GPIFADR3 is a GPIF address output pin.", 61 PC4/GPIFADR4 (io) "Multiplexed pin whose function is selected by PORTCCFG.4 PC4 is a bidirectional I/O port pin. GPIFADR4 is a GPIF address output pin.", 62 PC5/GPIFADR5 (io) "Multiplexed pin whose function is selected by PORTCCFG.5 PC5 is a bidirectional I/O port pin. GPIFADR5 is a GPIF address output pin.", 63 PC6/GPIFADR6 (io) "Multiplexed pin whose function is selected by PORTCCFG.6 PC6 is a bidirectional I/O port pin. GPIFADR6 is a GPIF address output pin.", 64 PC7/GPIFADR7 (io) "Multiplexed pin whose function is selected by PORTCCFG.7 PC7 is a bidirectional I/O port pin. GPIFADR7 is a GPIF address output pin.", 67 PA0/INT0# (io) "Multiplexed pin whose function is selected by PORTACFG.0 PA0 is a bidirectional I/O port pin. INT0# is the active-LOW 8051 INT0 interrupt input signal, which is either edge triggered (IT0 = 1) or level triggered (IT0 = 0).", 68 PA1/INT1# (io) "Multiplexed pin whose function is selected by PORTACFG.0 PA1 is a bidirectional I/O port pin. INT1# is the active-LOW 8051 INT0 interrupt input signal, which is either edge triggered (IT0 = 1) or level triggered (IT0 = 0).", 69 PA2/SLOE (io) "Multiplexed pin whose function is selected by two bits: IFCONFIG[1:0]. PA2 is a bidirectional I/O port pin. SLOE is an input-only output enable with programmable polarity (FIFOPINPOLAR.4) for the slave FIFOs connected to (See Datasheet)", 70 PA3/WU2 (io) "Multiplexed pin whose function is selected by: WAKEUP.7 and OEA.3 PA3 is a bidirectional I/O port pin. WU2 is an alternate source for USB Wakeup, enabled by WU2EN bit (WAKEUP.1) and polarity set by WU2POL (WAKEUP.4). If the (See Datasheet)", 71 PA4/FIFOADR0 (io) "Multiplexed pin whose function is selected by: IFCONFIG[1..0]. PA4 is a bidirectional I/O port pin. FIFOADR0 is an input-only address select for the slave FIFOs connected to FD[7..0] or FD[15..0].", 72 PA5/FIFOADR1 (io) "Multiplexed pin whose function is selected by: IFCONFIG[1..0]. PA5 is a bidirectional I/O port pin. FIFOADR1 is an input-only address select for the slave FIFOs connected to FD[7..0] or FD[15..0].", 73 PA6/PKTEND (io) "Multiplexed pin whose function is selected by the IFCONFIG[1:0] bits. PA6 is a bidirectional I/O port pin. PKTEND is an input used to commit the FIFO packet data to the endpoint and whose polarity is programmable via (See Datasheet)", 74 PA7/FLAGD/SLCS# (io) "Multiplexed pin whose function is selected by the IFCONFIG[1:0] and PORTACFG.7 bits. PA7 is a bidirectional I/O port pin. FLAGD is a programmable slave-FIFO output status flag signal. SLCS# gates all other slave FIFO (See Datasheet)", 80 PD0/FD8 (io) "Multiplexed pin whose function is selected by the IFCONFIG[1..0] and EPxFIFOCFG.0 (wordwide) bits. FD[8] is the bidirectional FIFO/GPIF data bus.", 81 PD1/FD9 (io) "Multiplexed pin whose function is selected by the IFCONFIG[1..0] and EPxFIFOCFG.0 (wordwide) bits. FD[9] is the bidirectional FIFO/GPIF data bus.", 82 PD2/FD10 (io) "Multiplexed pin whose function is selected by the IFCONFIG[1..0] and EPxFIFOCFG.0 (wordwide) bits. FD[10] is the bidirectional FIFO/GPIF data bus.", 83 PD3/FD11 (io) "Multiplexed pin whose function is selected by the IFCONFIG[1..0] and EPxFIFOCFG.0 (wordwide) bits. FD[11] is the bidirectional FIFO/GPIF data bus.", 86 PE0/T0OUT (io) "Multiplexed pin whose function is selected by the PORTECFG.0 bit. PE0 is a bidirectional I/O port pin. T0OUT is an active HIGH signal from 8051 Timer-counter0. T0OUT outputs a high level for one CLKOUT clock cycle when (See Datasheet)", 87 PE1/T1OUT (io) "Multiplexed pin whose function is selected by the PORTECFG.1 bit. PE1 is a bidirectional I/O port pin. T1OUT is an active HIGH signal from 8051 Timer-counter1. T1OUT outputs a high level for one CLKOUT clock cycle when (See Datasheet)", 88 PE2/T2OUT (io) "Multiplexed pin whose function is selected by the PORTECFG.2 bit. PE2 is a bidirectional I/O port pin. T2OUT is the active HIGH output signal from 8051 Timer2. T2OUT is active (HIGH) for one clock cycle when Timer/Counter 2 (See Datasheet)", 89 PE3/RXD0OUT (io) "Multiplexed pin whose function is selected by the PORTECFG.3 bit. PE3 is a bidirectional I/O port pin. RXD0OUT is an active HIGH signal from 8051 UART0. If RXD0OUT is selected and UART0 is in Mode 0, this pin provides the (See Datasheet)", 90 PE4/RXD1OUT (io) "Multiplexed pin whose function is selected by the PORTECFG.4 bit. PE4 is a bidirectional I/O port pin. RXD1OUT is an active HIGH output from 8051 UART1. When the RXD1OUT is selected and UART1 is in Mode 0, this pin provides (See Datasheet)", 91 PE5/INT6 (io) "Multiplexed pin whose function is selected by the PORTECFG.5 bit. PE5 is a bidirectional I/O port pin. INT6 is the 8051 INT6 interrupt request input signal. The INT6 pin is edge-sensitive, active HIGH.", 92 PE6/T2EX (io) "Multiplexed pin whose function is selected by the PORTECFG.6 bit. PE6 is a bidirectional I/O port pin. T2EX is an active HIGH input signal to the 8051 Timer2. T2EX reloads timer 2 on its falling edge. T2EX is active only if (See Datasheet)", 93 PE7/GPIFADR8 (io) "Multiplexed pin whose function is selected by the PORTECFG.7 bit. PE7 is a bidirectional I/O port pin. GPIFADR8 is a GPIF address output pin.", 95 PD4/FD12 (io) "Multiplexed pin whose function is selected by the IFCONFIG[1..0] and EPxFIFOCFG.0 (wordwide) bits. FD[12] is the bidirectional FIFO/GPIF data bus.", 96 PD5/FD13 (io) "Multiplexed pin whose function is selected by the IFCONFIG[1..0] and EPxFIFOCFG.0 (wordwide) bits. FD[13] is the bidirectional FIFO/GPIF data bus.", 97 PD6/FD14 (io) "Multiplexed pin whose function is selected by the IFCONFIG[1..0] and EPxFIFOCFG.0 (wordwide) bits. FD[14] is the bidirectional FIFO/GPIF data bus.", 98 PD7/FD15 (io) "Multiplexed pin whose function is selected by the IFCONFIG[1..0] and EPxFIFOCFG.0 (wordwide) bits. FD[15] is the bidirectional FIFO/GPIF data bus."
part B pins: 3 RDY0/SLRD (in) "Multiplexed pin whose function is selected by the following bits: IFCONFIG[1..0]. RDY0 is a GPIF input signal. SLRD is the input-only read strobe with programmable polarity (FIFOPINPOLAR.3) for the slave FIFOs connected to (See Datasheet)", 4 RDY1/SLWR (in) "Multiplexed pin whose function is selected by the following bits: IFCONFIG[1..0]. RDY1 is a GPIF input signal. SLWR is the input-only write strobe with programmable polarity (FIFOPINPOLAR.2) for the slave FIFOs connected to (See Datasheet)", 5 RDY2 (in) "RDY2 is a GPIF input signal.", 6 RDY3 (in) "RDY3 is a GPIF input signal.", 7 RDY4 (in) "RDY4 is a GPIF input signal.", 8 RDY5 (in) "RDY5 is a GPIF input signal.", 10 XTALOUT "Crystal Output. Connect this signal to a 24 MHz parallel-resonant, fundamental mode crystal and load capacitor to GND. If an external clock is used to drive XTALIN, leave this pin open.", 11 XTALIN (in) "Crystal Input. Connect this signal to a 24 MHz parallel-resonant, fundamental mode crystal and load capacitor to GND. It is also correct to drive the XTALIN with an external 24 MHz square wave derived from another clock (See Datasheet)", 13 NC "No Connect. This pin must be left open.", 14 NC "No Connect. This pin must be left open.", 15 NC "No Connect. This pin must be left open.", 17 DPLUS (io) "USB D+ Signal. Connect to the USB D+ signal.", 18 DMINUS (io) "USB D- Signal. Connect to the USB D- signal.", 22 INT4 (in) "INT4 is the 8051 INT4 interrupt request input signal. The INT4 pin is edge-sensitive, active HIGH.", 23 T0 (in) "T0 is the active-HIGH T0 signal for 8051 Timer0, which provides the input to Timer0 when C/T0 is 1. When C/T0 is 0, Timer0 does not use this bit.", 24 T1 (in) "T1 is the active-HIGH T1 signal for 8051 Timer1, which provides the input to Timer1 when C/T1 is 1. When C/T1 is 0, Timer1 does not use this bit.", 25 T2 (in) "T2 is the active-HIGH T2 input signal to 8051 Timer2, which provides the input to Timer2 when C/T2 = 1. When C/T2 = 0, Timer2 does not use this pin.", 26 IFCLK (io) "Interface Clock, used for synchronously clocking data into or out of the slave FIFOs. IFCLK also serves as a timing reference for all slave FIFO control signals and GPIF. When internal clocking is used (IFCONFIG.7 = 1) the (See Datasheet)", 28 BKPT (out) "Breakpoint. This pin goes active (HIGH) when the 8051 address bus matches the BPADDRH/L registers and breakpoints are enabled in the BREAKPT register (BPEN = 1). If the BPPULSE bit in the BREAKPT register is HIGH, this (See Datasheet)", 29 SCL (io) "Clock for the I2C interface. Connect to VCC with a 2.2K resistor, even if no I2C peripheral is attached.", 30 SDA (io) "Data for I2C interface. Connect to VCC with a 2.2K resistor, even if no I2C peripheral is attached.", 31 RD# (out) "RD# is the active-LOW read strobe output for external memory.", 32 WR# (out) "WR# is the active-LOW write strobe output for external memory.", 40 TXD0 (out) "TXD0 is the active-HIGH TXD0 output from 8051 UART0, which provides the output clock in sync mode, and the output data in async mode.", 41 RXD0 (in) "RXD0 is the active-HIGH RXD0 input to 8051 UART0, which provides data to the UART in all modes.", 42 TXD1 (out) "TXD1 is an active-HIGH output pin from 8051 UART1, which provides the output clock in sync mode, and the output data in async mode.", 43 RXD1 (in) "RXD1 is an active-HIGH input signal for 8051 UART1, which provides data to the UART in all modes.", 51 CTL3 (out) "CTL3 is a GPIF control output.", 52 CTL4 (out) "CTL4 is a GPIF control output.", 54 CTL0/FLAGA (hiz) "Multiplexed pin whose function is selected by the following bits: IFCONFIG[1..0]. CTL0 is a GPIF control output. FLAGA is a programmable slave-FIFO output status flag signal. Defaults to programmable for the FIFO selected by (See Datasheet)", 55 CTL1/FLAGB (hiz) "Multiplexed pin whose function is selected by the following bits: IFCONFIG[1..0]. CTL1 is a GPIF control output. FLAGB is a programmable slave-FIFO output status flag signal. Defaults to programmable for the FIFO selected by (See Datasheet)", 56 CTL2/FLAGC (hiz) "Multiplexed pin whose function is selected by the following bits: IFCONFIG[1..0]. CTL2 is a GPIF control output. FLAGC is a programmable slave-FIFO output status flag signal. Defaults to programmable for the FIFO selected by (See Datasheet)", 76 CTL5 (out) "CTL5 is a GPIF control output.", 77 RESET# (in) "Active LOW Reset. Resets the entire chip.", 79 WAKEUP (in) "USB Wakeup. If the 8051 is in suspend, asserting this pin starts up the oscillator and interrupts the 8051 to allow it to exit the suspend mode. Holding WAKEUP asserted inhibits the EZ-USB FX1 chip from suspending. This pin (See Datasheet)", 84 INT5# (in) "INT5# is the 8051 INT5 interrupt request input signal. The INT5 pin is edge-sensitive, active LOW.", 100 CLKOUT (hiz) "CLKOUT. 12, 24 or 48 MHz clock, phase locked to the 24 MHz input clock. The 8051 defaults to 12 MHz operation. The 8051 may three-state this output by setting CPUCS.1 = 1."
part C pins: 1 VCC (power) "VCC. Connect to 3.3 V power source.", 2 GND (power) "Ground.", 9 AVCC (power) "Analog VCC. Connect this pin to 3.3 V power source. This signal provides power to the analog section of the chip.", 12 AGND (power) "Analog Ground. Connect to ground with as short a path as possible.", 16 AVCC (power) "Analog VCC. Connect this pin to 3.3 V power source. This signal provides power to the analog section of the chip.", 19 AGND (power) "Analog Ground. Connect to ground with as short a path as possible.", 20 VCC (power) "VCC. Connect to 3.3 V power source.", 21 GND (power) "Ground.", 27 RESERVED (power) "Reserved. Connect to ground.", 33 VCC (power) "VCC. Connect to 3.3 V power source.", 38 VCC (power) "VCC. Connect to 3.3 V power source.", 39 GND (power) "Ground.", 48 GND (power) "Ground.", 49 VCC (power) "VCC. Connect to 3.3 V power source.", 50 GND (power) "Ground.", 53 VCC (power) "VCC. Connect to 3.3 V power source.", 65 GND (power) "Ground.", 66 VCC (power) "VCC. Connect to 3.3 V power source.", 75 GND (power) "Ground.", 78 VCC (power) "VCC. Connect to 3.3 V power source.", 85 VCC (power) "VCC. Connect to 3.3 V power source.", 94 GND (power) "Ground.", 99 GND (power) "Ground."